# Altium schematic symbol library ConnectorsLib.SchLib: 96 symbols
Pins are listed as number, name and electrical type; pins without a type are passive.

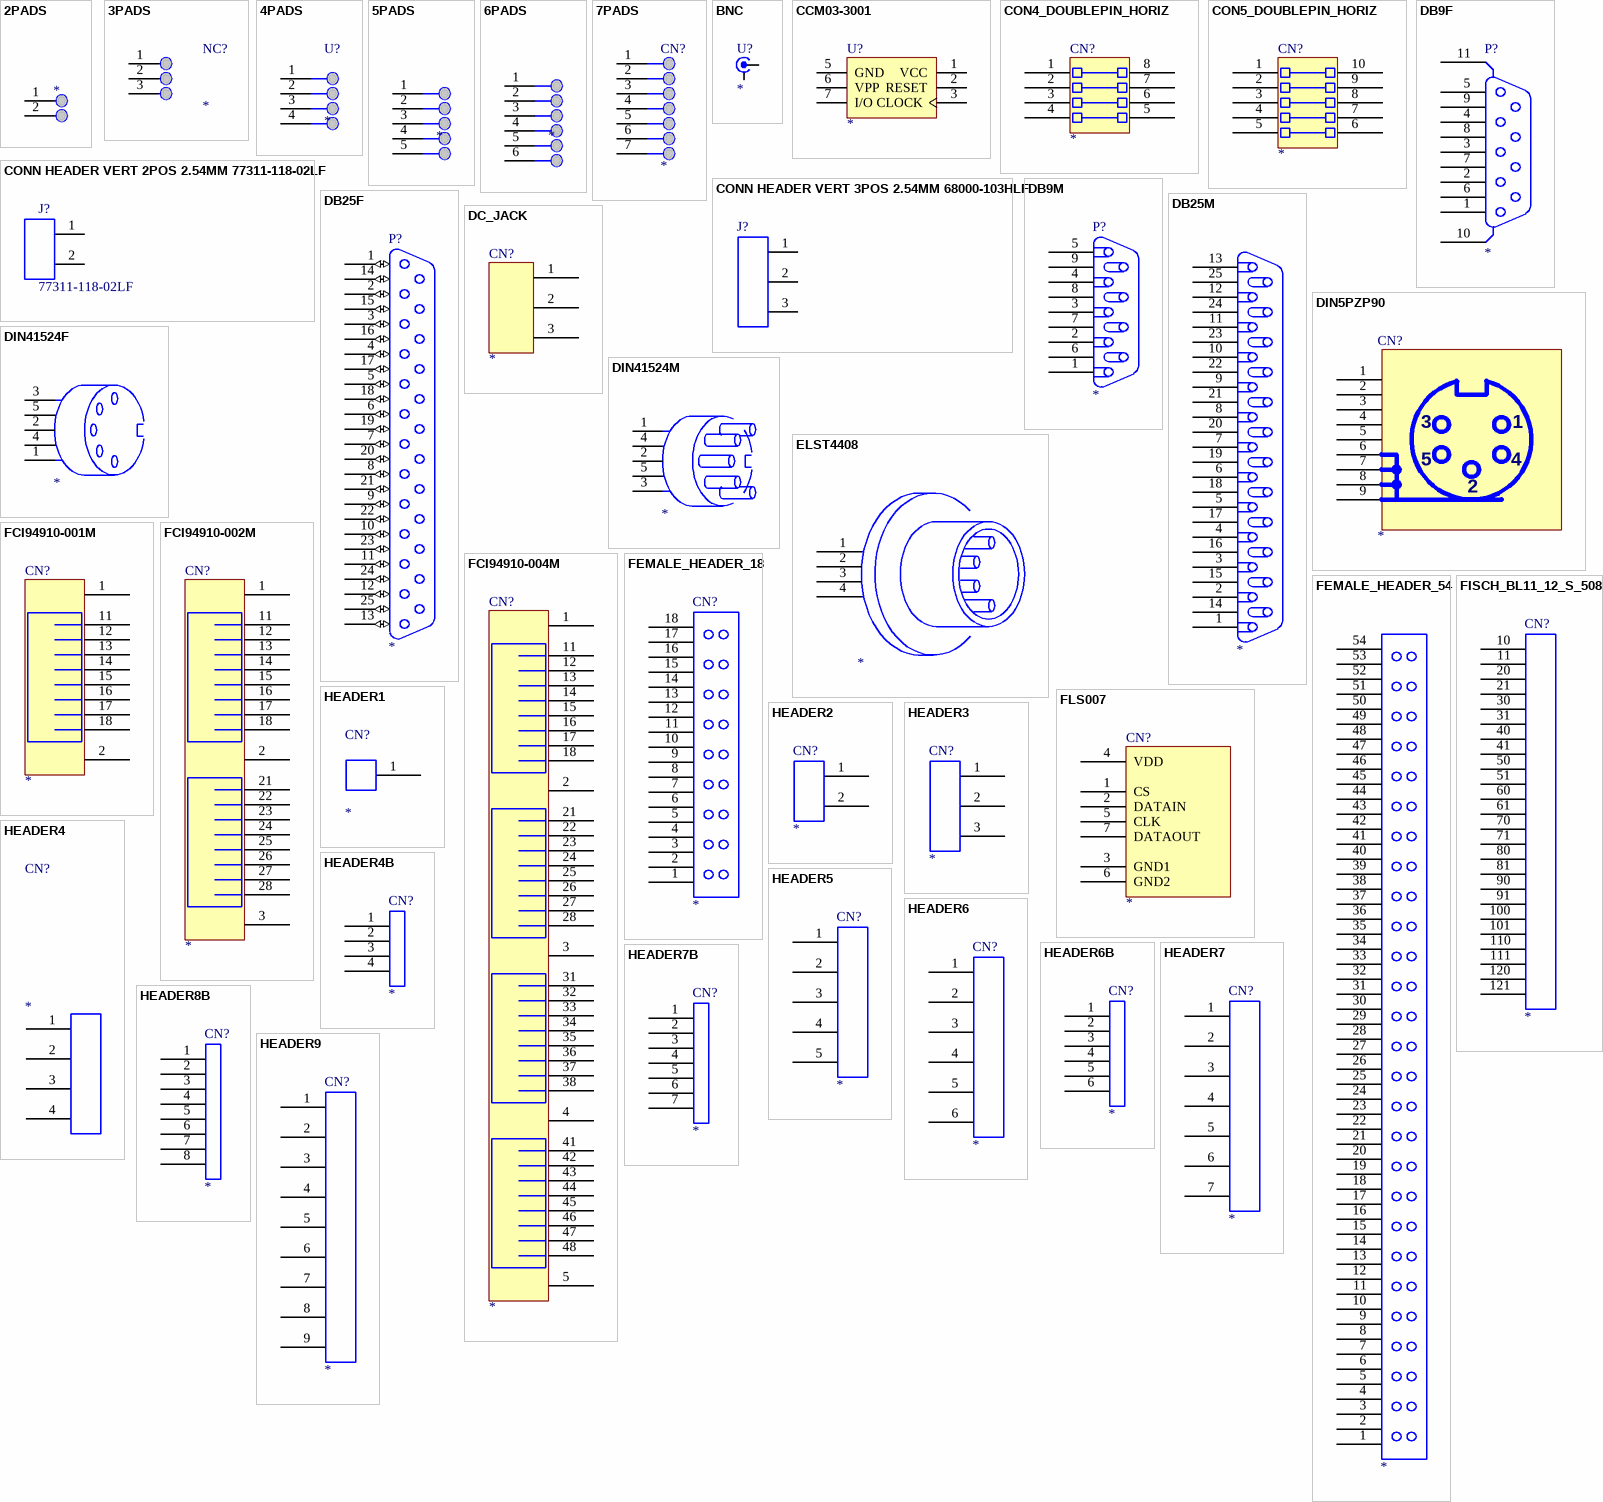
[diagram p0: symbols 2PADS to HEADER9]

## 2PADS
designator ?
pins: 1, 2

## 3PADS
designator NC?
footprint SIP3
pins: 1, 2, 3

## 4PADS
designator U?
pins: 1, 2, 3, 4

## 5PADS
designator ?
pins: 1, 2, 3, 4, 5

## 6PADS
designator ?
pins: 1, 2, 3, 4, 5, 6

## 7PADS
designator CN?
pins: 1, 2, 3, 4, 5, 6, 7

## BNC
designator U?
BNC
pins: 1, 2

## CCM03-3001
designator U?
SIM Card Connector
footprint C707-10M006-0492
pins: 1 VCC (power), 2 RESET, 3 CLOCK, 5 GND (power), 6 VPP (power), 7 I/O

## CON4_DOUBLEPIN_HORIZ
designator CN?
Connector 4 pin, horizontal
pins: 1, 2, 3, 4, 5, 6, 7, 8

## CON5_DOUBLEPIN_HORIZ
designator CN?
Connector 5 pin, horizontal
pins: 1, 2, 3, 4, 5, 6, 7, 8, 9, 10

## CONN HEADER VERT 2POS 2.54MM 77311-118-02LF
designator J?, comment 77311-118-02LF
Connector Header Through Hole 2 position 0.100" (2.54mm); Manufacturer 1: Amphenol ICC (FCI); Part Number 1: 77311-118-02LF
footprint HEADER2X1
pins: 1, 2

## CONN HEADER VERT 3POS 2.54MM 68000-103HLF
designator J?, comment 68000-103HLF  (value not drawn)
Connector Header Through Hole 3 position 0.100" (2.54mm); Manufacturer 1: Amphenol ICC (FCI); PartNumber 1: 68000-103HLF
footprint HEADER3X1
pins: 1, 2, 3

## DB9F
designator P?
pins: 1, 2, 3, 4, 5, 6, 7, 8, 9, 10, 11

## DB9M
designator P?
pins: 1, 2, 3, 4, 5, 6, 7, 8, 9

## DB25F
designator P?
pins: 1 (io), 2 (io), 3 (io), 4 (io), 5 (io), 6 (io), 7 (io), 8 (io), 9 (io), 10 (io), 11 (io), 12 (io), 13 (io), 14 (io), 15 (io), 16 (io), 17 (io), 18 (io), 19 (io), 20 (io), 21 (io), 22 (io), 23 (io), 24 (io), 25 (io)

## DB25M
designator ?
pins: 1, 2, 3, 4, 5, 6, 7, 8, 9, 10, 11, 12, 13, 14, 15, 16, 17, 18, 19, 20, 21, 22, 23, 24, 25

## DC_JACK
designator CN?
pins: 1, 2, 3

## DIN5PZP90
designator CN?
DIN5 FEMALE CONNECTOR
footprint DIN5PZP90
pins: 1, 2, 3, 4, 5, 6, 7, 8, 9

## DIN41524F
designator ?
pins: 1, 2, 3, 4, 5

## DIN41524M
designator ?
pins: 1, 2, 3, 4, 5

## ELST4408
designator ?
pins: 1, 2, 3, 4

## FCI94910-001M
designator CN?
RJ45 Receptacle
pins: 1, 2, 11, 12, 13, 14, 15, 16, 17, 18

## FCI94910-002M
designator CN?
Dual RJ45 Receptacle
pins: 1, 2, 3, 11, 12, 13, 14, 15, 16, 17, 18, 21, 22, 23, 24, 25, 26, 27, 28

## FCI94910-004M
designator CN?
RJ45-4PORT
pins: 1, 2, 3, 4, 5, 11, 12, 13, 14, 15, 16, 17, 18, 21, 22, 23, 24, 25, 26, 27, 28, 31, 32, 33, 34, 35, 36, 37, 38, 41, 42, 43, 44, 45, 46, 47, 48

## FEMALE_HEADER_18
designator CN?
Connector
pins: 1, 2, 3, 4, 5, 6, 7, 8, 9, 10, 11, 12, 13, 14, 15, 16, 17, 18

## FEMALE_HEADER_54
designator ?
pins: 1, 2, 3, 4, 5, 6, 7, 8, 9, 10, 11, 12, 13, 14, 15, 16, 17, 18, 19, 20, 21, 22, 23, 24, 25, 26, 27, 28, 29, 30, 31, 32, 33, 34, 35, 36, 37, 38, 39, 40, 41, 42, 43, 44, 45, 46, 47, 48, 49, 50, 51, 52, 53, 54

## FISCH_BL11_12_S_508
designator CN?
FISCHER BL11 12 S 508 Con.
footprint FISCH_BL11_12_S_508
pins: 10, 11, 20, 21, 30, 31, 40, 41, 50, 51, 60, 61, 70, 71, 80, 81, 90, 91, 100, 101, 110, 111, 120, 121

## FLS007
designator CN?
Multimedia card adaptor
pins: 1 CS, 2 DATAIN, 3 GND1, 4 VDD, 5 CLK, 6 GND2, 7 DATAOUT

## HEADER1
designator CN?
1 PIN CONNECTOR
pins: 1

## HEADER2
designator CN?
2 PIN CONNECTOR
pins: 1, 2

## HEADER3
designator CN?
3 PIN CONNECTOR
pins: 1, 2, 3

## HEADER4
designator CN?
4 PIN CONNECTOR
footprint METOS_CON_4
pins: 1, 2, 3, 4

## HEADER4B
designator CN?
4 PIN CONNECTOR
pins: 1, 2, 3, 4

## HEADER5
designator CN?
5 PIN CONNECTOR
pins: 1, 2, 3, 4, 5

## HEADER6
designator CN?
6 PIN CONNECTOR
pins: 1, 2, 3, 4, 5, 6

## HEADER6B
designator CN?
6 PIN CONNECTOR
pins: 1, 2, 3, 4, 5, 6

## HEADER7
designator CN?
7 PIN CONNECTOR
pins: 1, 2, 3, 4, 5, 6, 7

## HEADER7B
designator CN?
7 PIN CONNECTOR
pins: 1, 2, 3, 4, 5, 6, 7

## HEADER8B
designator CN?
8 PIN CONNECTOR
pins: 1, 2, 3, 4, 5, 6, 7, 8

## HEADER9
designator CN?
9 PIN CONNECTOR
pins: 1, 2, 3, 4, 5, 6, 7, 8, 9

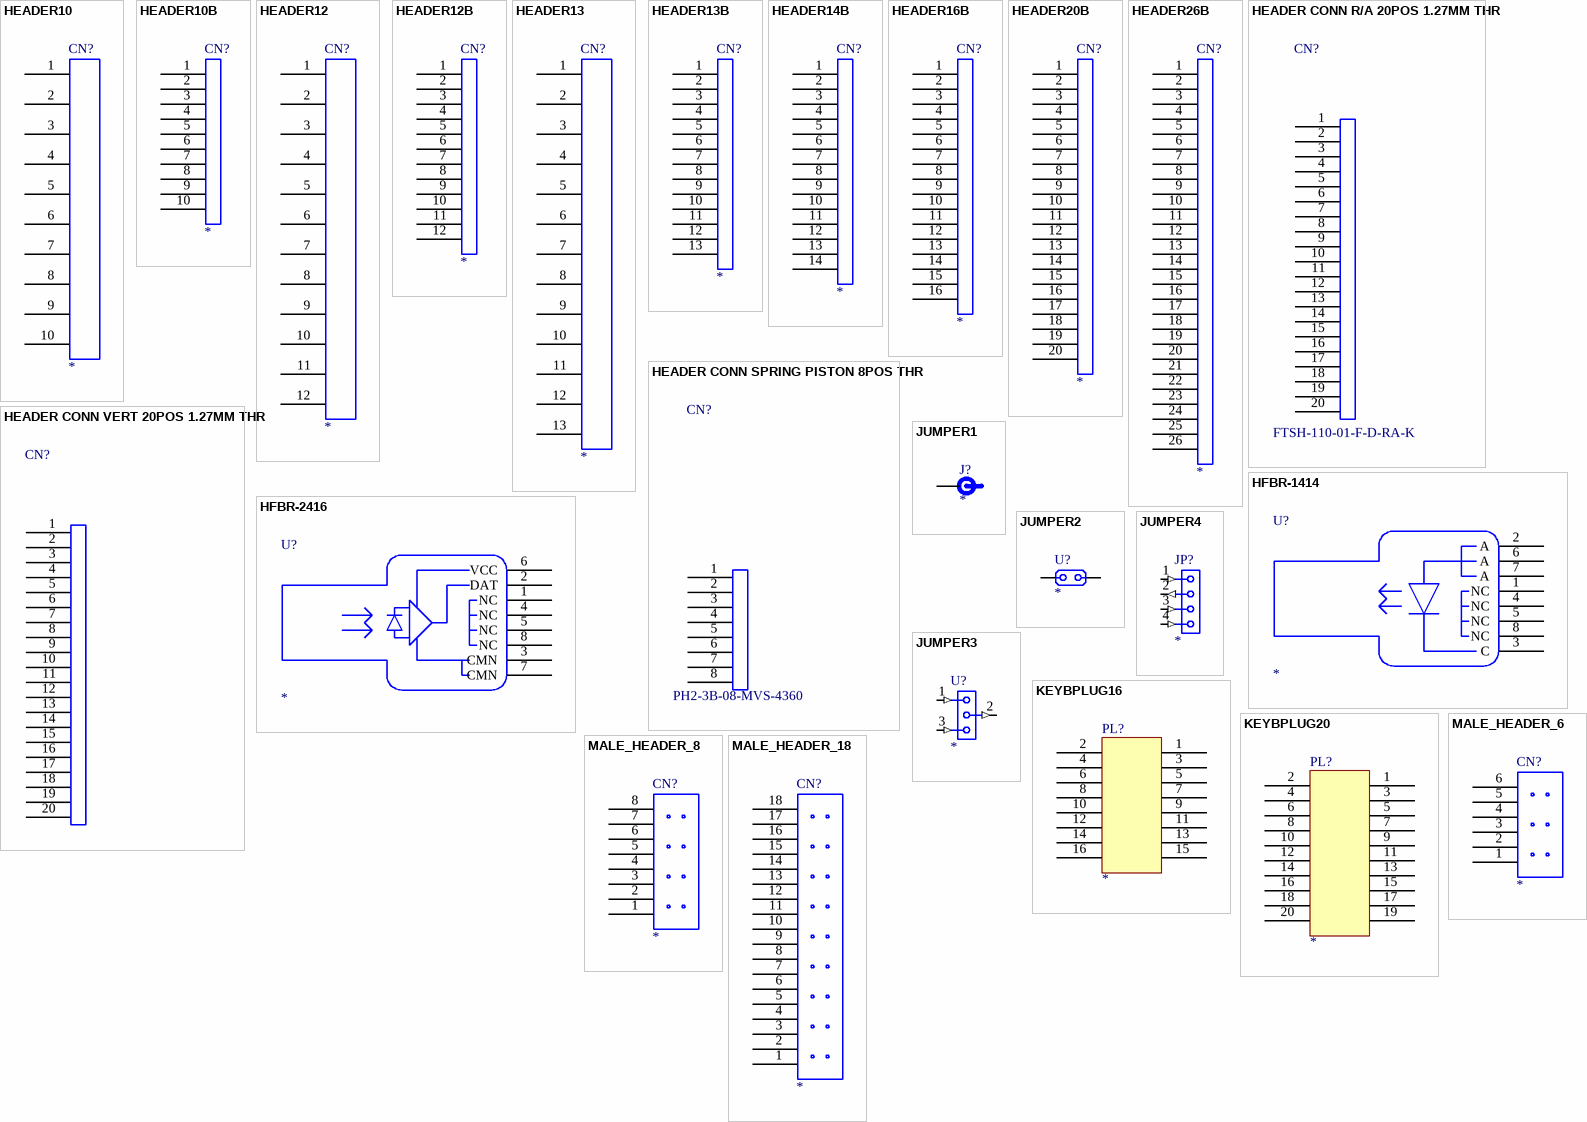
[diagram p1: symbols HEADER10 to MALE_HEADER_18]

## HEADER10
designator CN?
10 PIN CONNECTOR
pins: 1, 2, 3, 4, 5, 6, 7, 8, 9, 10

## HEADER10B
designator CN?
10 PIN CONNECTOR
pins: 1, 2, 3, 4, 5, 6, 7, 8, 9, 10

## HEADER12
designator CN?
12 PIN CONNECTOR
pins: 1, 2, 3, 4, 5, 6, 7, 8, 9, 10, 11, 12

## HEADER12B
designator CN?
12 PIN CONNECTOR
pins: 1, 2, 3, 4, 5, 6, 7, 8, 9, 10, 11, 12

## HEADER13
designator CN?
13 PIN CONNECTOR
pins: 1, 2, 3, 4, 5, 6, 7, 8, 9, 10, 11, 12, 13

## HEADER13B
designator CN?
13 PIN CONNECTOR
pins: 1, 2, 3, 4, 5, 6, 7, 8, 9, 10, 11, 12, 13

## HEADER14B
designator CN?
14 PIN CONNECTOR
pins: 1, 2, 3, 4, 5, 6, 7, 8, 9, 10, 11, 12, 13, 14

## HEADER16B
designator CN?
16 PIN CONNECTOR
pins: 1, 2, 3, 4, 5, 6, 7, 8, 9, 10, 11, 12, 13, 14, 15, 16

## HEADER20B
designator CN?
20 PIN CONNECTOR
pins: 1, 2, 3, 4, 5, 6, 7, 8, 9, 10, 11, 12, 13, 14, 15, 16, 17, 18, 19, 20

## HEADER26B
designator CN?
26 PIN CONNECTOR
pins: 1, 2, 3, 4, 5, 6, 7, 8, 9, 10, 11, 12, 13, 14, 15, 16, 17, 18, 19, 20, 21, 22, 23, 24, 25, 26

## HEADER CONN R/A 20POS 1.27MM THR
designator CN?  value FTSH-110-01-F-D-RA-K  (hidden comment: *)
Connector Header Through Hole, Right Angle 20 position 0.050" (1.27mm); PartNumber1: FTSH-110-01-F-D-RA-K; Supplier 1: Digi-Key; Supplier 2: Mouser; Supplier 3: Arrow Electronics Inc.; Supplier 4: Avnet; Supplier 5: Newark; Supplier Part Number 5: 01R4631; Supplier Part Number 4: FTSH-110-01-F-D-RA-K; Supplier Part Number 3: FTSH-110-01-F-D-RA-K; Supplier Part Number 2: 200-FTSH11001FDRAK; Supplier Part Number 1: SAM12599-ND
footprint FTSH-110-01-L-D-K_edge (Connector Header Through Hole 20 position 0.050" (1.27mm))
footprint FTSH-110-01-L-D-K_thr (Connector Header Through Hole 20 position 0.050" (1.27mm))
pins: 1, 2, 3, 4, 5, 6, 7, 8, 9, 10, 11, 12, 13, 14, 15, 16, 17, 18, 19, 20

## HEADER CONN SPRING PISTON 8POS THR
designator CN?  value PH2-3B-08-MVS-4360
8 Position Spring Piston Connector Through Hole, Solder Cup; PartNumber1: PH2-3B-08-MVS-4360; Supplier 1: Digi-Key; Supplier Part Number 1: 2057-PH2-3B-08-MVS-4360-ND
footprint PH2-3B-08-MVS-4360_EDGE (8 Position Spring Piston Connector Through Hole, Solder Cup)
pins: 1, 2, 3, 4, 5, 6, 7, 8

## HEADER CONN VERT 20POS 1.27MM THR
designator CN?  (value not drawn)
Connector Header Through Hole 20 position 0.050" (1.27mm); PartNumber1: FTSH-110-01-L-D-K; Value: FTSH-110-01-L-D-K; Supplier 1: Digi-Key; Supplier 2: Farnell; Supplier 3: Mouser; Supplier 4: Arrow Electronics Inc.; Supplier 5: RSComponents; Supplier 6: Avnet; Supplier 7: RSComponents; Supplier 8: Newark; Supplier Part Number 5: 1804665; Supplier Part Number 7: 1804974; Supplier Part Number 3: 200-FTSH11001LDK; Supplier Part Number 2: 2856455; Supplier Part Number 8: 56P2484; Supplier Part Number 4: FTSH-110-01-L-D-K; Supplier Part Number 6: FTSH-110-01-L-D-K; Supplier Part Number 1: SAM9455-ND
footprint FTSH-110-01-L-D-K_edge (Connector Header Through Hole 20 position 0.050" (1.27mm))
footprint FTSH-110-01-L-D-K_thr (Connector Header Through Hole 20 position 0.050" (1.27mm))
pins: 1, 2, 3, 4, 5, 6, 7, 8, 9, 10, 11, 12, 13, 14, 15, 16, 17, 18, 19, 20

## HFBR-1414
designator U?
Fiber Transmitter
pins: 1 NC, 2 A, 3 C, 4 NC, 5 NC, 6 A, 7 A, 8 NC

## HFBR-2416
designator U?
Fiber Receiver
pins: 1 NC, 2 DAT, 3 CMN, 4 NC, 5 NC, 6 VCC, 7 CMN, 8 NC

## JUMPER1
designator J?
ONE PIN JUMPER
pins: 1

## JUMPER2
designator U?
pins: 1, 2

## JUMPER3
designator U?
pins: 1 (in), 2 (out), 3 (in)

## JUMPER4
designator JP?
JUMPER4
pins: 1 (in), 2 (out), 3 (in), 4 (in)

## KEYBPLUG16
designator PL?
Piano Keyboard Connector
pins: 1, 2, 3, 4, 5, 6, 7, 8, 9, 10, 11, 12, 13, 14, 15, 16

## KEYBPLUG20
designator PL?
Piano Keyboard Connector
pins: 1, 2, 3, 4, 5, 6, 7, 8, 9, 10, 11, 12, 13, 14, 15, 16, 17, 18, 19, 20

## MALE_HEADER_6
designator CN?
MALE HEADER 6
pins: 1, 2, 3, 4, 5, 6

## MALE_HEADER_8
designator CN?
MALE HEADER 8
pins: 1, 2, 3, 4, 5, 6, 7, 8

## MALE_HEADER_18
designator CN?
MALE HEADER 18 PIN
pins: 1, 2, 3, 4, 5, 6, 7, 8, 9, 10, 11, 12, 13, 14, 15, 16, 17, 18

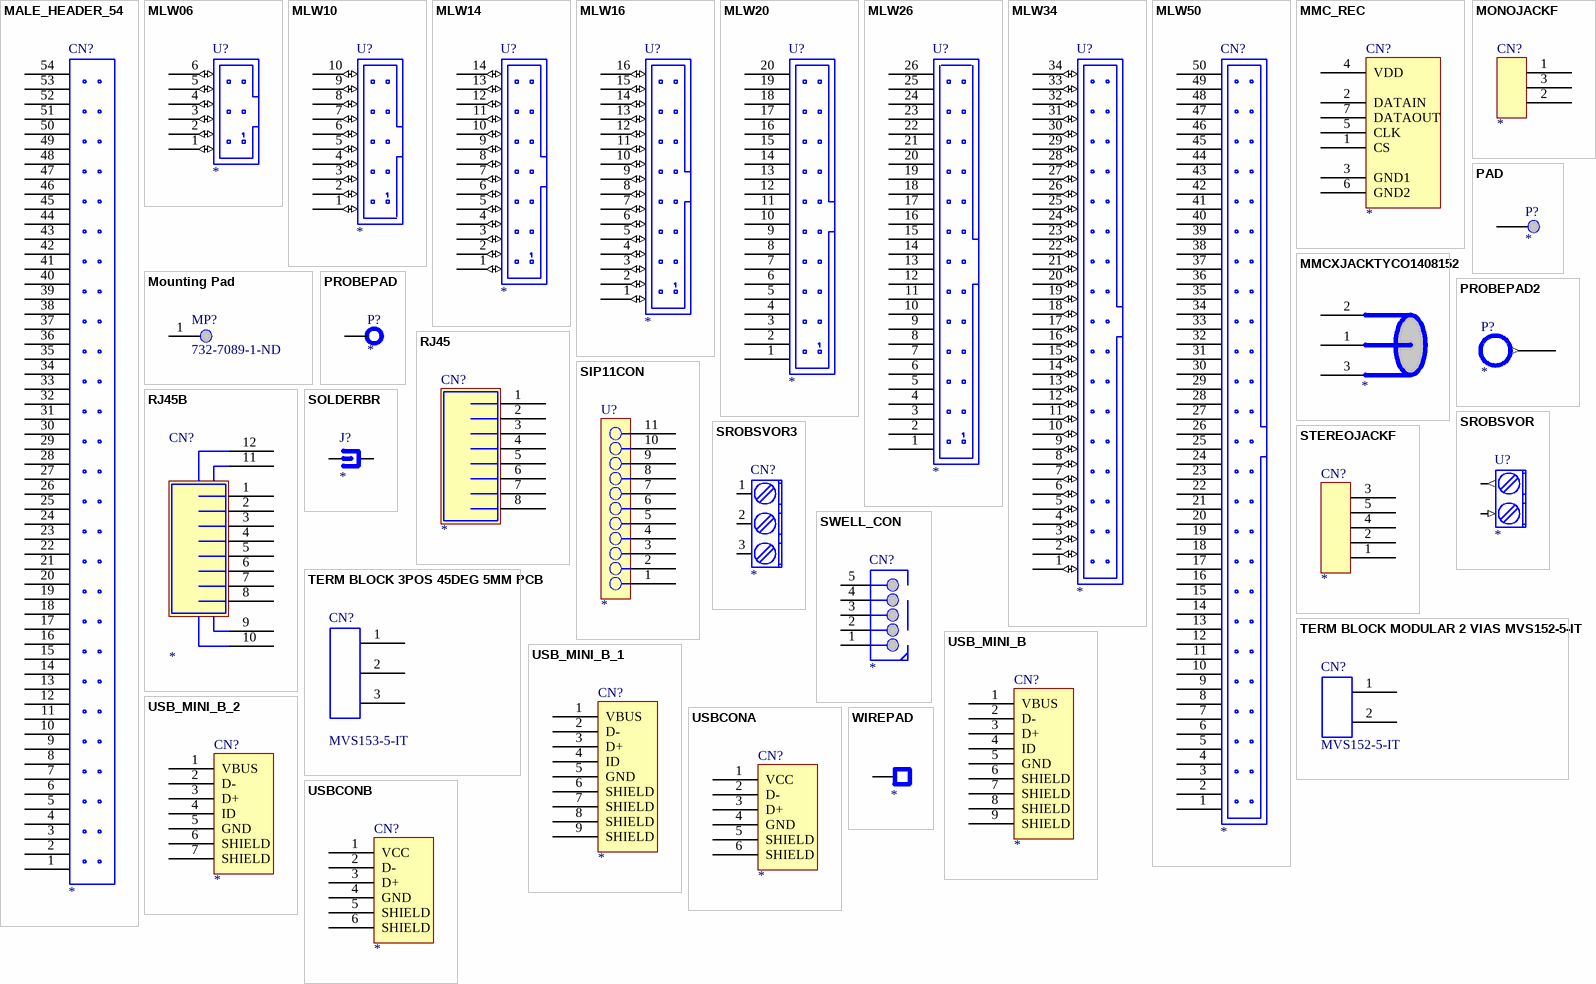
[diagram p2: symbols MALE_HEADER_54 to WIREPAD]

## MALE_HEADER_54
designator CN?
Male Header 54 pins
pins: 1, 2, 3, 4, 5, 6, 7, 8, 9, 10, 11, 12, 13, 14, 15, 16, 17, 18, 19, 20, 21, 22, 23, 24, 25, 26, 27, 28, 29, 30, 31, 32, 33, 34, 35, 36, 37, 38, 39, 40, 41, 42, 43, 44, 45, 46, 47, 48, 49, 50, 51, 52, 53, 54

## MLW06
designator U?
Male header 6
pins: 1 (io), 2 (io), 3 (io), 4 (io), 5 (io), 6 (io)

## MLW10
designator U?
Male header 10
pins: 1 (io), 2 (io), 3 (io), 4 (io), 5 (io), 6 (io), 7 (io), 8 (io), 9 (io), 10 (io)

## MLW14
designator U?
Male header 14
pins: 1 (io), 2 (io), 3 (io), 4 (io), 5 (io), 6 (io), 7 (io), 8 (io), 9 (io), 10 (io), 11 (io), 12 (io), 13 (io), 14 (io)

## MLW16
designator U?
Male header 16
pins: 1 (io), 2 (io), 3 (io), 4 (io), 5 (io), 6 (io), 7 (io), 8 (io), 9 (io), 10 (io), 11 (io), 12 (io), 13 (io), 14 (io), 15 (io), 16 (io)

## MLW20
designator U?
Male header 20
pins: 1, 2, 3, 4, 5, 6, 7, 8, 9, 10, 11, 12, 13, 14, 15, 16, 17, 18, 19, 20

## MLW26
designator U?
Male header 26
pins: 1, 2, 3, 4, 5, 6, 7, 8, 9, 10, 11, 12, 13, 14, 15, 16, 17, 18, 19, 20, 21, 22, 23, 24, 25, 26

## MLW34
designator U?
Male header 34
pins: 1 (io), 2 (io), 3 (io), 4 (io), 5 (io), 6 (io), 7 (io), 8 (io), 9 (io), 10 (io), 11 (io), 12 (io), 13 (io), 14 (io), 15 (io), 16 (io), 17 (io), 18 (io), 19 (io), 20 (io), 21 (io), 22 (io), 23 (io), 24 (io), 25 (io), 26 (io), 27 (io), 28 (io), 29 (io), 30 (io), 31 (io), 32 (io), 33 (io), 34 (io)

## MLW50
designator CN?
Male header 50
pins: 1, 2, 3, 4, 5, 6, 7, 8, 9, 10, 11, 12, 13, 14, 15, 16, 17, 18, 19, 20, 21, 22, 23, 24, 25, 26, 27, 28, 29, 30, 31, 32, 33, 34, 35, 36, 37, 38, 39, 40, 41, 42, 43, 44, 45, 46, 47, 48, 49, 50

## MMC_REC
designator CN?
MultiMedia Card Receptacle
pins: 1 CS (power), 2 DATAIN (power), 3 GND1 (power), 4 VDD (power), 5 CLK (power), 6 GND2 (power), 7 DATAOUT (power)

## MMCXJACKTYCO1408152
designator ?
pins: 1 (power), 2 (power), 3 (power)

## MONOJACKF
designator CN?
Mono Jack Receptacle
pins: 1, 2, 3

## Mounting Pad
designator MP?, comment 732-7089-1-ND
Mounting Pad
footprint SMSTO-250 (Surface Mount Standoff -M2.5, High 4mm ( 732-7089-1-ND ))
pins: 1

## PAD
designator P?
pins: 1

## PROBEPAD
designator P?
PROBE PAD
pins: 1

## PROBEPAD2
designator P?
Oscilloscope Probe Pad
pins: 1 (out), 2 (out), 3 (out)

## RJ45
designator CN?
pins: 1, 2, 3, 4, 5, 6, 7, 8

## RJ45B
designator CN?
pins: 1, 2, 3, 4, 5, 6, 7, 8, 9, 10, 11, 12

## SIP11CON
designator U?
pins: 1, 2, 3, 4, 5, 6, 7, 8, 9, 10, 11

## SOLDERBR
designator J?
SOLDER BRIDGE
pins: 1, 2

## SROBSVOR
designator U?
pins: 1  1 (out), 2  2 (in)

## SROBSVOR3
designator CN?
pins: 1  1, 2  2, 3  3

## STEREOJACKF
designator CN?
Stereo Jack Receptacle
pins: 1, 2, 3, 4, 5

## SWELL_CON
designator CN?
SWELL PEDAL CONNECTOR
pins: 1, 2, 3, 4, 5

## TERM BLOCK 3POS 45DEG 5MM PCB
designator CN?, comment MVS153-5-IT
3 PIN CONNECTOR; PartNumber: MVS153-5-IT; Value: MVS153-5-IT
footprint TERMBLOCK3X5.0_45D
pins: 1, 2, 3

## TERM BLOCK MODULAR 2 VIAS MVS152-5-IT
designator CN?  value MVS152-5-IT
PCB Term.Block Modular P5 1, 5mm2 17, 5A 2P 35°; PartNumber: MVS152-5-IT
footprint TERMBLOCK2X5.0_45D
pins: 1, 2

## USB_MINI_B
designator CN?
USB Mini-B Receptacle
pins: 1 VBUS (power), 2 D- (power), 3 D+ (power), 4 ID (power), 5 GND (power), 6 SHIELD, 7 SHIELD, 8 SHIELD, 9 SHIELD

## USB_MINI_B_1
designator CN?
USB Mini-B Receptacle
pins: 1 VBUS (power), 2 D- (power), 3 D+ (power), 4 ID (power), 5 GND (power), 6 SHIELD, 7 SHIELD, 8 SHIELD, 9 SHIELD

## USB_MINI_B_2
designator CN?
USB Mini-B Receptacle
footprint USB_MINIB_THRU
pins: 1 VBUS (power), 2 D- (power), 3 D+ (power), 4 ID (power), 5 GND (power), 6 SHIELD, 7 SHIELD

## USBCONA
designator CN?
USB Connector type A
pins: 1 VCC (power), 2 D- (power), 3 D+ (power), 4 GND (power), 5 SHIELD (power), 6 SHIELD (power)

## USBCONB
designator CN?
USB Connector type A
pins: 1 VCC (power), 2 D- (power), 3 D+ (power), 4 GND (power), 5 SHIELD (power), 6 SHIELD (power)

## WIREPAD
designator ?
pins: 1